# Altium integrated library Renesas Diode.IntLib: 1609 symbols (part 22 of 31)
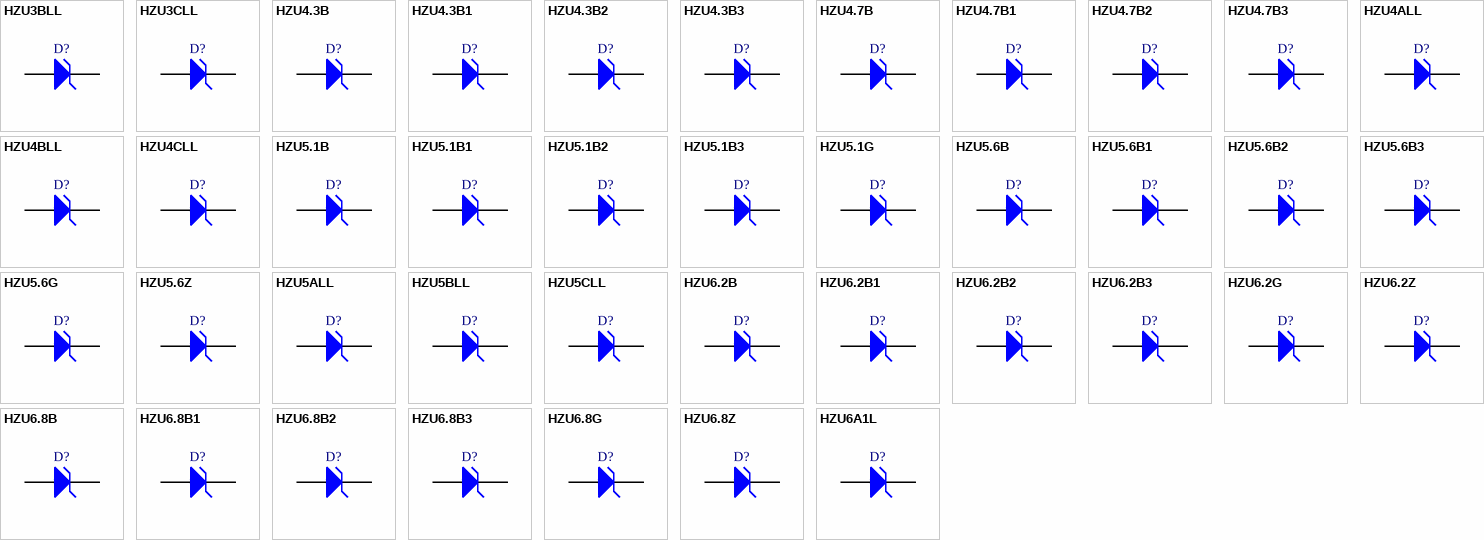
[diagram p66: symbols HZU3BLL to HZU6A1L]

## HZU6.8G
designator D?
Silicon Epitaxial Planar Zener Diode for Surge Absorption; Published: 12-Feb-2010; DatasheetVersion: Rev.3.00, Jun-2006; PackageVersion: Sep-2005; PackageReference: PTSP0002ZA-A; Publisher: Altium Limited; PackageDescription: 2-Pin SC-76 Package, 1.7 x 1.3 mm Body; Code_JEITA: SC-76A; ComponentLink1Description: Manufacturer Link; ComponentLink1URL: http://sg.renesas.com/fmwk.jsp?cnt=diode_landing.jsp&fp=/products/discrete/diodes/; ComponentLink2Description: Datasheet; ComponentLink2URL: http://documentation.renesas.com/eng/products/diode/rej03g1215_hzu_g.pdf; ComponentLink3Description: Packaging Specification; ComponentLink3URL: http://sg.renesas.com/media/products/common_info/package/pdf/diode/code/ptsp0002za_a.pdf
footprint PTSP0002ZA-A (SC-76; 2 Leads; Body 1.7x1.3mm, Renesas Recommended)
signal-integrity model HZU6.8G
pins: 1 K, 2 A

## HZU6.8Z
designator D?
Silicon Epitaxial Planar Zener Diode for Surge Absorption; Published: 12-Feb-2010; DatasheetVersion: Rev.2.00, Jun-2005; PackageVersion: Sep-2005; PackageReference: PTSP0002ZA-A; Publisher: Altium Limited; PackageDescription: 2-Pin SC-76 Package, 1.7 x 1.3 mm Body; Code_JEITA: SC-76A; ComponentLink1Description: Manufacturer Link; ComponentLink1URL: http://sg.renesas.com/fmwk.jsp?cnt=diode_landing.jsp&fp=/products/discrete/diodes/; ComponentLink2Description: Datasheet; ComponentLink2URL: http://documentation.renesas.com/eng/products/diode/rej03g1219_hzu68z.pdf; ComponentLink3Description: Packaging Specification; ComponentLink3URL: http://sg.renesas.com/media/products/common_info/package/pdf/diode/code/ptsp0002za_a.pdf
footprint PTSP0002ZA-A (SC-76; 2 Leads; Body 1.7x1.3mm, Renesas Recommended)
signal-integrity model HZU6.8Z
pins: 1 K, 2 A

## HZU6A1L
designator D?
Silicon Planar Zener Diode for Low Noise Application; Published: 12-Feb-2010; DatasheetVersion: Rev.4.00, Oct-2007; PackageVersion: Sep-2005; PackageReference: PTSP0002ZA-A; Publisher: Altium Limited; PackageDescription: 2-Pin SC-76 Package, 1.7 x 1.3 mm Body; Code_JEITA: SC-76A; ComponentLink1Description: Manufacturer Link; ComponentLink1URL: http://sg.renesas.com/fmwk.jsp?cnt=diode_landing.jsp&fp=/products/discrete/diodes/; ComponentLink2Description: Datasheet; ComponentLink2URL: http://documentation.renesas.com/eng/products/diode/rej03g0043_hzu_l.pdf; ComponentLink3Description: Packaging Specification; ComponentLink3URL: http://sg.renesas.com/media/products/common_info/package/pdf/diode/code/ptsp0002za_a.pdf
footprint PTSP0002ZA-A (SC-76; 2 Leads; Body 1.7x1.3mm, Renesas Recommended)
signal-integrity model HZU6A1L
pins: 1 K, 2 A

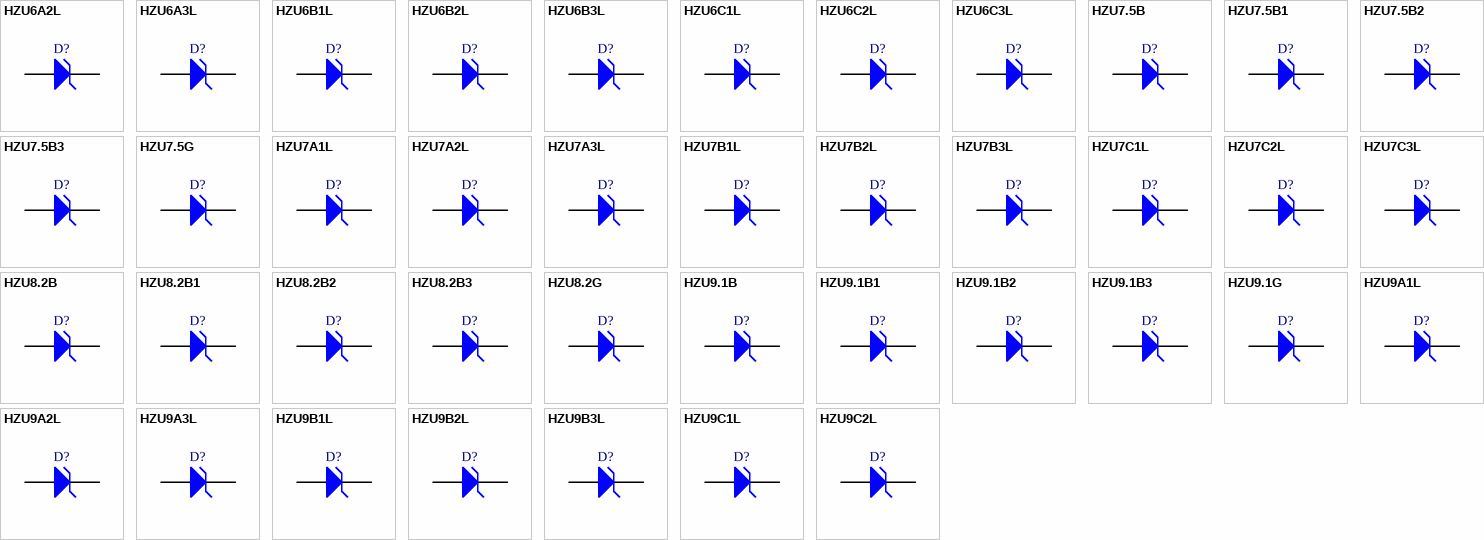
[diagram p30: symbols HZU6A2L to HZU9C2L]

## HZU6A2L
designator D?
Silicon Planar Zener Diode for Low Noise Application; Published: 12-Feb-2010; DatasheetVersion: Rev.4.00, Oct-2007; PackageVersion: Sep-2005; PackageReference: PTSP0002ZA-A; Publisher: Altium Limited; PackageDescription: 2-Pin SC-76 Package, 1.7 x 1.3 mm Body; Code_JEITA: SC-76A; ComponentLink1Description: Manufacturer Link; ComponentLink1URL: http://sg.renesas.com/fmwk.jsp?cnt=diode_landing.jsp&fp=/products/discrete/diodes/; ComponentLink2Description: Datasheet; ComponentLink2URL: http://documentation.renesas.com/eng/products/diode/rej03g0043_hzu_l.pdf; ComponentLink3Description: Packaging Specification; ComponentLink3URL: http://sg.renesas.com/media/products/common_info/package/pdf/diode/code/ptsp0002za_a.pdf
footprint PTSP0002ZA-A (SC-76; 2 Leads; Body 1.7x1.3mm, Renesas Recommended)
signal-integrity model HZU6A2L
pins: 1 K, 2 A

## HZU6A3L
designator D?
Silicon Planar Zener Diode for Low Noise Application; Published: 12-Feb-2010; DatasheetVersion: Rev.4.00, Oct-2007; PackageVersion: Sep-2005; PackageReference: PTSP0002ZA-A; Publisher: Altium Limited; PackageDescription: 2-Pin SC-76 Package, 1.7 x 1.3 mm Body; Code_JEITA: SC-76A; ComponentLink1Description: Manufacturer Link; ComponentLink1URL: http://sg.renesas.com/fmwk.jsp?cnt=diode_landing.jsp&fp=/products/discrete/diodes/; ComponentLink2Description: Datasheet; ComponentLink2URL: http://documentation.renesas.com/eng/products/diode/rej03g0043_hzu_l.pdf; ComponentLink3Description: Packaging Specification; ComponentLink3URL: http://sg.renesas.com/media/products/common_info/package/pdf/diode/code/ptsp0002za_a.pdf
footprint PTSP0002ZA-A (SC-76; 2 Leads; Body 1.7x1.3mm, Renesas Recommended)
signal-integrity model HZU6A3L
pins: 1 K, 2 A

## HZU6B1L
designator D?
Silicon Planar Zener Diode for Low Noise Application; Published: 12-Feb-2010; DatasheetVersion: Rev.4.00, Oct-2007; PackageVersion: Sep-2005; PackageReference: PTSP0002ZA-A; Publisher: Altium Limited; PackageDescription: 2-Pin SC-76 Package, 1.7 x 1.3 mm Body; Code_JEITA: SC-76A; ComponentLink1Description: Manufacturer Link; ComponentLink1URL: http://sg.renesas.com/fmwk.jsp?cnt=diode_landing.jsp&fp=/products/discrete/diodes/; ComponentLink2Description: Datasheet; ComponentLink2URL: http://documentation.renesas.com/eng/products/diode/rej03g0043_hzu_l.pdf; ComponentLink3Description: Packaging Specification; ComponentLink3URL: http://sg.renesas.com/media/products/common_info/package/pdf/diode/code/ptsp0002za_a.pdf
footprint PTSP0002ZA-A (SC-76; 2 Leads; Body 1.7x1.3mm, Renesas Recommended)
signal-integrity model HZU6B1L
pins: 1 K, 2 A

## HZU6B2L
designator D?
Silicon Planar Zener Diode for Low Noise Application; Published: 12-Feb-2010; DatasheetVersion: Rev.4.00, Oct-2007; PackageVersion: Sep-2005; PackageReference: PTSP0002ZA-A; Publisher: Altium Limited; PackageDescription: 2-Pin SC-76 Package, 1.7 x 1.3 mm Body; Code_JEITA: SC-76A; ComponentLink1Description: Manufacturer Link; ComponentLink1URL: http://sg.renesas.com/fmwk.jsp?cnt=diode_landing.jsp&fp=/products/discrete/diodes/; ComponentLink2Description: Datasheet; ComponentLink2URL: http://documentation.renesas.com/eng/products/diode/rej03g0043_hzu_l.pdf; ComponentLink3Description: Packaging Specification; ComponentLink3URL: http://sg.renesas.com/media/products/common_info/package/pdf/diode/code/ptsp0002za_a.pdf
footprint PTSP0002ZA-A (SC-76; 2 Leads; Body 1.7x1.3mm, Renesas Recommended)
signal-integrity model HZU6B2L
pins: 1 K, 2 A

## HZU6B3L
designator D?
Silicon Planar Zener Diode for Low Noise Application; Published: 12-Feb-2010; DatasheetVersion: Rev.4.00, Oct-2007; PackageVersion: Sep-2005; PackageReference: PTSP0002ZA-A; Publisher: Altium Limited; PackageDescription: 2-Pin SC-76 Package, 1.7 x 1.3 mm Body; Code_JEITA: SC-76A; ComponentLink1Description: Manufacturer Link; ComponentLink1URL: http://sg.renesas.com/fmwk.jsp?cnt=diode_landing.jsp&fp=/products/discrete/diodes/; ComponentLink2Description: Datasheet; ComponentLink2URL: http://documentation.renesas.com/eng/products/diode/rej03g0043_hzu_l.pdf; ComponentLink3Description: Packaging Specification; ComponentLink3URL: http://sg.renesas.com/media/products/common_info/package/pdf/diode/code/ptsp0002za_a.pdf
footprint PTSP0002ZA-A (SC-76; 2 Leads; Body 1.7x1.3mm, Renesas Recommended)
signal-integrity model HZU6B3L
pins: 1 K, 2 A

## HZU6C1L
designator D?
Silicon Planar Zener Diode for Low Noise Application; Published: 12-Feb-2010; DatasheetVersion: Rev.4.00, Oct-2007; PackageVersion: Sep-2005; PackageReference: PTSP0002ZA-A; Publisher: Altium Limited; PackageDescription: 2-Pin SC-76 Package, 1.7 x 1.3 mm Body; Code_JEITA: SC-76A; ComponentLink1Description: Manufacturer Link; ComponentLink1URL: http://sg.renesas.com/fmwk.jsp?cnt=diode_landing.jsp&fp=/products/discrete/diodes/; ComponentLink2Description: Datasheet; ComponentLink2URL: http://documentation.renesas.com/eng/products/diode/rej03g0043_hzu_l.pdf; ComponentLink3Description: Packaging Specification; ComponentLink3URL: http://sg.renesas.com/media/products/common_info/package/pdf/diode/code/ptsp0002za_a.pdf
footprint PTSP0002ZA-A (SC-76; 2 Leads; Body 1.7x1.3mm, Renesas Recommended)
signal-integrity model HZU6C1L
pins: 1 K, 2 A

## HZU6C2L
designator D?
Silicon Planar Zener Diode for Low Noise Application; Published: 12-Feb-2010; DatasheetVersion: Rev.4.00, Oct-2007; PackageVersion: Sep-2005; PackageReference: PTSP0002ZA-A; Publisher: Altium Limited; PackageDescription: 2-Pin SC-76 Package, 1.7 x 1.3 mm Body; Code_JEITA: SC-76A; ComponentLink1Description: Manufacturer Link; ComponentLink1URL: http://sg.renesas.com/fmwk.jsp?cnt=diode_landing.jsp&fp=/products/discrete/diodes/; ComponentLink2Description: Datasheet; ComponentLink2URL: http://documentation.renesas.com/eng/products/diode/rej03g0043_hzu_l.pdf; ComponentLink3Description: Packaging Specification; ComponentLink3URL: http://sg.renesas.com/media/products/common_info/package/pdf/diode/code/ptsp0002za_a.pdf
footprint PTSP0002ZA-A (SC-76; 2 Leads; Body 1.7x1.3mm, Renesas Recommended)
signal-integrity model HZU6C2L
pins: 1 K, 2 A

## HZU6C3L
designator D?
Silicon Planar Zener Diode for Low Noise Application; Published: 12-Feb-2010; DatasheetVersion: Rev.4.00, Oct-2007; PackageVersion: Sep-2005; PackageReference: PTSP0002ZA-A; Publisher: Altium Limited; PackageDescription: 2-Pin SC-76 Package, 1.7 x 1.3 mm Body; Code_JEITA: SC-76A; ComponentLink1Description: Manufacturer Link; ComponentLink1URL: http://sg.renesas.com/fmwk.jsp?cnt=diode_landing.jsp&fp=/products/discrete/diodes/; ComponentLink2Description: Datasheet; ComponentLink2URL: http://documentation.renesas.com/eng/products/diode/rej03g0043_hzu_l.pdf; ComponentLink3Description: Packaging Specification; ComponentLink3URL: http://sg.renesas.com/media/products/common_info/package/pdf/diode/code/ptsp0002za_a.pdf
footprint PTSP0002ZA-A (SC-76; 2 Leads; Body 1.7x1.3mm, Renesas Recommended)
signal-integrity model HZU6C3L
pins: 1 K, 2 A

## HZU7.5B
designator D?
Silicon Epitaxial Planar Zener Diodes for Stabilizer; Published: 12-Feb-2010; DatasheetVersion: Rev.9.00, Jul-2006; PackageVersion: Sep-2005; PackageReference: PTSP0002ZA-A; Publisher: Altium Limited; PackageDescription: 2-Pin SC-76 Package, 1.7 x 1.3 mm Body; Code_JEITA: SC-76A; ComponentLink1Description: Manufacturer Link; ComponentLink1URL: http://sg.renesas.com/fmwk.jsp?cnt=diode_landing.jsp&fp=/products/discrete/diodes/; ComponentLink2Description: Datasheet; ComponentLink2URL: http://documentation.renesas.com/eng/products/diode/rej03g0625_hzu.pdf; ComponentLink3Description: Packaging Specification; ComponentLink3URL: http://sg.renesas.com/media/products/common_info/package/pdf/diode/code/ptsp0002za_a.pdf
footprint PTSP0002ZA-A (SC-76; 2 Leads; Body 1.7x1.3mm, Renesas Recommended)
signal-integrity model HZU7.5B
pins: 1 K, 2 A

## HZU7.5B1
designator D?
Silicon Epitaxial Planar Zener Diodes for Stabilizer; Published: 12-Feb-2010; DatasheetVersion: Rev.9.00, Jul-2006; PackageVersion: Sep-2005; PackageReference: PTSP0002ZA-A; Publisher: Altium Limited; PackageDescription: 2-Pin SC-76 Package, 1.7 x 1.3 mm Body; Code_JEITA: SC-76A; ComponentLink1Description: Manufacturer Link; ComponentLink1URL: http://sg.renesas.com/fmwk.jsp?cnt=diode_landing.jsp&fp=/products/discrete/diodes/; ComponentLink2Description: Datasheet; ComponentLink2URL: http://documentation.renesas.com/eng/products/diode/rej03g0625_hzu.pdf; ComponentLink3Description: Packaging Specification; ComponentLink3URL: http://sg.renesas.com/media/products/common_info/package/pdf/diode/code/ptsp0002za_a.pdf
footprint PTSP0002ZA-A (SC-76; 2 Leads; Body 1.7x1.3mm, Renesas Recommended)
signal-integrity model HZU7.5B1
pins: 1 K, 2 A

## HZU7.5B2
designator D?
Silicon Epitaxial Planar Zener Diodes for Stabilizer; Published: 12-Feb-2010; DatasheetVersion: Rev.9.00, Jul-2006; PackageVersion: Sep-2005; PackageReference: PTSP0002ZA-A; Publisher: Altium Limited; PackageDescription: 2-Pin SC-76 Package, 1.7 x 1.3 mm Body; Code_JEITA: SC-76A; ComponentLink1Description: Manufacturer Link; ComponentLink1URL: http://sg.renesas.com/fmwk.jsp?cnt=diode_landing.jsp&fp=/products/discrete/diodes/; ComponentLink2Description: Datasheet; ComponentLink2URL: http://documentation.renesas.com/eng/products/diode/rej03g0625_hzu.pdf; ComponentLink3Description: Packaging Specification; ComponentLink3URL: http://sg.renesas.com/media/products/common_info/package/pdf/diode/code/ptsp0002za_a.pdf
footprint PTSP0002ZA-A (SC-76; 2 Leads; Body 1.7x1.3mm, Renesas Recommended)
signal-integrity model HZU7.5B2
pins: 1 K, 2 A

## HZU7.5B3
designator D?
Silicon Epitaxial Planar Zener Diodes for Stabilizer; Published: 12-Feb-2010; DatasheetVersion: Rev.9.00, Jul-2006; PackageVersion: Sep-2005; PackageReference: PTSP0002ZA-A; Publisher: Altium Limited; PackageDescription: 2-Pin SC-76 Package, 1.7 x 1.3 mm Body; Code_JEITA: SC-76A; ComponentLink1Description: Manufacturer Link; ComponentLink1URL: http://sg.renesas.com/fmwk.jsp?cnt=diode_landing.jsp&fp=/products/discrete/diodes/; ComponentLink2Description: Datasheet; ComponentLink2URL: http://documentation.renesas.com/eng/products/diode/rej03g0625_hzu.pdf; ComponentLink3Description: Packaging Specification; ComponentLink3URL: http://sg.renesas.com/media/products/common_info/package/pdf/diode/code/ptsp0002za_a.pdf
footprint PTSP0002ZA-A (SC-76; 2 Leads; Body 1.7x1.3mm, Renesas Recommended)
signal-integrity model HZU7.5B3
pins: 1 K, 2 A

## HZU7.5G
designator D?
Silicon Epitaxial Planar Zener Diode for Surge Absorption; Published: 12-Feb-2010; DatasheetVersion: Rev.3.00, Jun-2006; PackageVersion: Sep-2005; PackageReference: PTSP0002ZA-A; Publisher: Altium Limited; PackageDescription: 2-Pin SC-76 Package, 1.7 x 1.3 mm Body; Code_JEITA: SC-76A; ComponentLink1Description: Manufacturer Link; ComponentLink1URL: http://sg.renesas.com/fmwk.jsp?cnt=diode_landing.jsp&fp=/products/discrete/diodes/; ComponentLink2Description: Datasheet; ComponentLink2URL: http://documentation.renesas.com/eng/products/diode/rej03g1215_hzu_g.pdf; ComponentLink3Description: Packaging Specification; ComponentLink3URL: http://sg.renesas.com/media/products/common_info/package/pdf/diode/code/ptsp0002za_a.pdf
footprint PTSP0002ZA-A (SC-76; 2 Leads; Body 1.7x1.3mm, Renesas Recommended)
signal-integrity model HZU7.5G
pins: 1 K, 2 A

## HZU7A1L
designator D?
Silicon Planar Zener Diode for Low Noise Application; Published: 12-Feb-2010; DatasheetVersion: Rev.4.00, Oct-2007; PackageVersion: Sep-2005; PackageReference: PTSP0002ZA-A; Publisher: Altium Limited; PackageDescription: 2-Pin SC-76 Package, 1.7 x 1.3 mm Body; Code_JEITA: SC-76A; ComponentLink1Description: Manufacturer Link; ComponentLink1URL: http://sg.renesas.com/fmwk.jsp?cnt=diode_landing.jsp&fp=/products/discrete/diodes/; ComponentLink2Description: Datasheet; ComponentLink2URL: http://documentation.renesas.com/eng/products/diode/rej03g0043_hzu_l.pdf; ComponentLink3Description: Packaging Specification; ComponentLink3URL: http://sg.renesas.com/media/products/common_info/package/pdf/diode/code/ptsp0002za_a.pdf
footprint PTSP0002ZA-A (SC-76; 2 Leads; Body 1.7x1.3mm, Renesas Recommended)
signal-integrity model HZU7A1L
pins: 1 K, 2 A

## HZU7A2L
designator D?
Silicon Planar Zener Diode for Low Noise Application; Published: 12-Feb-2010; DatasheetVersion: Rev.4.00, Oct-2007; PackageVersion: Sep-2005; PackageReference: PTSP0002ZA-A; Publisher: Altium Limited; PackageDescription: 2-Pin SC-76 Package, 1.7 x 1.3 mm Body; Code_JEITA: SC-76A; ComponentLink1Description: Manufacturer Link; ComponentLink1URL: http://sg.renesas.com/fmwk.jsp?cnt=diode_landing.jsp&fp=/products/discrete/diodes/; ComponentLink2Description: Datasheet; ComponentLink2URL: http://documentation.renesas.com/eng/products/diode/rej03g0043_hzu_l.pdf; ComponentLink3Description: Packaging Specification; ComponentLink3URL: http://sg.renesas.com/media/products/common_info/package/pdf/diode/code/ptsp0002za_a.pdf
footprint PTSP0002ZA-A (SC-76; 2 Leads; Body 1.7x1.3mm, Renesas Recommended)
signal-integrity model HZU7A2L
pins: 1 K, 2 A

## HZU7A3L
designator D?
Silicon Planar Zener Diode for Low Noise Application; Published: 12-Feb-2010; DatasheetVersion: Rev.4.00, Oct-2007; PackageVersion: Sep-2005; PackageReference: PTSP0002ZA-A; Publisher: Altium Limited; PackageDescription: 2-Pin SC-76 Package, 1.7 x 1.3 mm Body; Code_JEITA: SC-76A; ComponentLink1Description: Manufacturer Link; ComponentLink1URL: http://sg.renesas.com/fmwk.jsp?cnt=diode_landing.jsp&fp=/products/discrete/diodes/; ComponentLink2Description: Datasheet; ComponentLink2URL: http://documentation.renesas.com/eng/products/diode/rej03g0043_hzu_l.pdf; ComponentLink3Description: Packaging Specification; ComponentLink3URL: http://sg.renesas.com/media/products/common_info/package/pdf/diode/code/ptsp0002za_a.pdf
footprint PTSP0002ZA-A (SC-76; 2 Leads; Body 1.7x1.3mm, Renesas Recommended)
signal-integrity model HZU7A3L
pins: 1 K, 2 A

## HZU7B1L
designator D?
Silicon Planar Zener Diode for Low Noise Application; Published: 12-Feb-2010; DatasheetVersion: Rev.4.00, Oct-2007; PackageVersion: Sep-2005; PackageReference: PTSP0002ZA-A; Publisher: Altium Limited; PackageDescription: 2-Pin SC-76 Package, 1.7 x 1.3 mm Body; Code_JEITA: SC-76A; ComponentLink1Description: Manufacturer Link; ComponentLink1URL: http://sg.renesas.com/fmwk.jsp?cnt=diode_landing.jsp&fp=/products/discrete/diodes/; ComponentLink2Description: Datasheet; ComponentLink2URL: http://documentation.renesas.com/eng/products/diode/rej03g0043_hzu_l.pdf; ComponentLink3Description: Packaging Specification; ComponentLink3URL: http://sg.renesas.com/media/products/common_info/package/pdf/diode/code/ptsp0002za_a.pdf
footprint PTSP0002ZA-A (SC-76; 2 Leads; Body 1.7x1.3mm, Renesas Recommended)
signal-integrity model HZU7B1L
pins: 1 K, 2 A

## HZU7B2L
designator D?
Silicon Planar Zener Diode for Low Noise Application; Published: 12-Feb-2010; DatasheetVersion: Rev.4.00, Oct-2007; PackageVersion: Sep-2005; PackageReference: PTSP0002ZA-A; Publisher: Altium Limited; PackageDescription: 2-Pin SC-76 Package, 1.7 x 1.3 mm Body; Code_JEITA: SC-76A; ComponentLink1Description: Manufacturer Link; ComponentLink1URL: http://sg.renesas.com/fmwk.jsp?cnt=diode_landing.jsp&fp=/products/discrete/diodes/; ComponentLink2Description: Datasheet; ComponentLink2URL: http://documentation.renesas.com/eng/products/diode/rej03g0043_hzu_l.pdf; ComponentLink3Description: Packaging Specification; ComponentLink3URL: http://sg.renesas.com/media/products/common_info/package/pdf/diode/code/ptsp0002za_a.pdf
footprint PTSP0002ZA-A (SC-76; 2 Leads; Body 1.7x1.3mm, Renesas Recommended)
signal-integrity model HZU7B2L
pins: 1 K, 2 A

## HZU7B3L
designator D?
Silicon Planar Zener Diode for Low Noise Application; Published: 12-Feb-2010; DatasheetVersion: Rev.4.00, Oct-2007; PackageVersion: Sep-2005; PackageReference: PTSP0002ZA-A; Publisher: Altium Limited; PackageDescription: 2-Pin SC-76 Package, 1.7 x 1.3 mm Body; Code_JEITA: SC-76A; ComponentLink1Description: Manufacturer Link; ComponentLink1URL: http://sg.renesas.com/fmwk.jsp?cnt=diode_landing.jsp&fp=/products/discrete/diodes/; ComponentLink2Description: Datasheet; ComponentLink2URL: http://documentation.renesas.com/eng/products/diode/rej03g0043_hzu_l.pdf; ComponentLink3Description: Packaging Specification; ComponentLink3URL: http://sg.renesas.com/media/products/common_info/package/pdf/diode/code/ptsp0002za_a.pdf
footprint PTSP0002ZA-A (SC-76; 2 Leads; Body 1.7x1.3mm, Renesas Recommended)
signal-integrity model HZU7B3L
pins: 1 K, 2 A

## HZU7C1L
designator D?
Silicon Planar Zener Diode for Low Noise Application; Published: 12-Feb-2010; DatasheetVersion: Rev.4.00, Oct-2007; PackageVersion: Sep-2005; PackageReference: PTSP0002ZA-A; Publisher: Altium Limited; PackageDescription: 2-Pin SC-76 Package, 1.7 x 1.3 mm Body; Code_JEITA: SC-76A; ComponentLink1Description: Manufacturer Link; ComponentLink1URL: http://sg.renesas.com/fmwk.jsp?cnt=diode_landing.jsp&fp=/products/discrete/diodes/; ComponentLink2Description: Datasheet; ComponentLink2URL: http://documentation.renesas.com/eng/products/diode/rej03g0043_hzu_l.pdf; ComponentLink3Description: Packaging Specification; ComponentLink3URL: http://sg.renesas.com/media/products/common_info/package/pdf/diode/code/ptsp0002za_a.pdf
footprint PTSP0002ZA-A (SC-76; 2 Leads; Body 1.7x1.3mm, Renesas Recommended)
signal-integrity model HZU7C1L
pins: 1 K, 2 A

## HZU7C2L
designator D?
Silicon Planar Zener Diode for Low Noise Application; Published: 12-Feb-2010; DatasheetVersion: Rev.4.00, Oct-2007; PackageVersion: Sep-2005; PackageReference: PTSP0002ZA-A; Publisher: Altium Limited; PackageDescription: 2-Pin SC-76 Package, 1.7 x 1.3 mm Body; Code_JEITA: SC-76A; ComponentLink1Description: Manufacturer Link; ComponentLink1URL: http://sg.renesas.com/fmwk.jsp?cnt=diode_landing.jsp&fp=/products/discrete/diodes/; ComponentLink2Description: Datasheet; ComponentLink2URL: http://documentation.renesas.com/eng/products/diode/rej03g0043_hzu_l.pdf; ComponentLink3Description: Packaging Specification; ComponentLink3URL: http://sg.renesas.com/media/products/common_info/package/pdf/diode/code/ptsp0002za_a.pdf
footprint PTSP0002ZA-A (SC-76; 2 Leads; Body 1.7x1.3mm, Renesas Recommended)
signal-integrity model HZU7C2L
pins: 1 K, 2 A

## HZU7C3L
designator D?
Silicon Planar Zener Diode for Low Noise Application; Published: 12-Feb-2010; DatasheetVersion: Rev.4.00, Oct-2007; PackageVersion: Sep-2005; PackageReference: PTSP0002ZA-A; Publisher: Altium Limited; PackageDescription: 2-Pin SC-76 Package, 1.7 x 1.3 mm Body; Code_JEITA: SC-76A; ComponentLink1Description: Manufacturer Link; ComponentLink1URL: http://sg.renesas.com/fmwk.jsp?cnt=diode_landing.jsp&fp=/products/discrete/diodes/; ComponentLink2Description: Datasheet; ComponentLink2URL: http://documentation.renesas.com/eng/products/diode/rej03g0043_hzu_l.pdf; ComponentLink3Description: Packaging Specification; ComponentLink3URL: http://sg.renesas.com/media/products/common_info/package/pdf/diode/code/ptsp0002za_a.pdf
footprint PTSP0002ZA-A (SC-76; 2 Leads; Body 1.7x1.3mm, Renesas Recommended)
signal-integrity model HZU7C3L
pins: 1 K, 2 A

## HZU8.2B
designator D?
Silicon Epitaxial Planar Zener Diodes for Stabilizer; Published: 12-Feb-2010; DatasheetVersion: Rev.9.00, Jul-2006; PackageVersion: Sep-2005; PackageReference: PTSP0002ZA-A; Publisher: Altium Limited; PackageDescription: 2-Pin SC-76 Package, 1.7 x 1.3 mm Body; Code_JEITA: SC-76A; ComponentLink1Description: Manufacturer Link; ComponentLink1URL: http://sg.renesas.com/fmwk.jsp?cnt=diode_landing.jsp&fp=/products/discrete/diodes/; ComponentLink2Description: Datasheet; ComponentLink2URL: http://documentation.renesas.com/eng/products/diode/rej03g0625_hzu.pdf; ComponentLink3Description: Packaging Specification; ComponentLink3URL: http://sg.renesas.com/media/products/common_info/package/pdf/diode/code/ptsp0002za_a.pdf
footprint PTSP0002ZA-A (SC-76; 2 Leads; Body 1.7x1.3mm, Renesas Recommended)
signal-integrity model HZU8.2B
pins: 1 K, 2 A

## HZU8.2B1
designator D?
Silicon Epitaxial Planar Zener Diodes for Stabilizer; Published: 12-Feb-2010; DatasheetVersion: Rev.9.00, Jul-2006; PackageVersion: Sep-2005; PackageReference: PTSP0002ZA-A; Publisher: Altium Limited; PackageDescription: 2-Pin SC-76 Package, 1.7 x 1.3 mm Body; Code_JEITA: SC-76A; ComponentLink1Description: Manufacturer Link; ComponentLink1URL: http://sg.renesas.com/fmwk.jsp?cnt=diode_landing.jsp&fp=/products/discrete/diodes/; ComponentLink2Description: Datasheet; ComponentLink2URL: http://documentation.renesas.com/eng/products/diode/rej03g0625_hzu.pdf; ComponentLink3Description: Packaging Specification; ComponentLink3URL: http://sg.renesas.com/media/products/common_info/package/pdf/diode/code/ptsp0002za_a.pdf
footprint PTSP0002ZA-A (SC-76; 2 Leads; Body 1.7x1.3mm, Renesas Recommended)
signal-integrity model HZU8.2B1
pins: 1 K, 2 A

## HZU8.2B2
designator D?
Silicon Epitaxial Planar Zener Diodes for Stabilizer; Published: 12-Feb-2010; DatasheetVersion: Rev.9.00, Jul-2006; PackageVersion: Sep-2005; PackageReference: PTSP0002ZA-A; Publisher: Altium Limited; PackageDescription: 2-Pin SC-76 Package, 1.7 x 1.3 mm Body; Code_JEITA: SC-76A; ComponentLink1Description: Manufacturer Link; ComponentLink1URL: http://sg.renesas.com/fmwk.jsp?cnt=diode_landing.jsp&fp=/products/discrete/diodes/; ComponentLink2Description: Datasheet; ComponentLink2URL: http://documentation.renesas.com/eng/products/diode/rej03g0625_hzu.pdf; ComponentLink3Description: Packaging Specification; ComponentLink3URL: http://sg.renesas.com/media/products/common_info/package/pdf/diode/code/ptsp0002za_a.pdf
footprint PTSP0002ZA-A (SC-76; 2 Leads; Body 1.7x1.3mm, Renesas Recommended)
signal-integrity model HZU8.2B2
pins: 1 K, 2 A

## HZU8.2B3
designator D?
Silicon Epitaxial Planar Zener Diodes for Stabilizer; Published: 12-Feb-2010; DatasheetVersion: Rev.9.00, Jul-2006; PackageVersion: Sep-2005; PackageReference: PTSP0002ZA-A; Publisher: Altium Limited; PackageDescription: 2-Pin SC-76 Package, 1.7 x 1.3 mm Body; Code_JEITA: SC-76A; ComponentLink1Description: Manufacturer Link; ComponentLink1URL: http://sg.renesas.com/fmwk.jsp?cnt=diode_landing.jsp&fp=/products/discrete/diodes/; ComponentLink2Description: Datasheet; ComponentLink2URL: http://documentation.renesas.com/eng/products/diode/rej03g0625_hzu.pdf; ComponentLink3Description: Packaging Specification; ComponentLink3URL: http://sg.renesas.com/media/products/common_info/package/pdf/diode/code/ptsp0002za_a.pdf
footprint PTSP0002ZA-A (SC-76; 2 Leads; Body 1.7x1.3mm, Renesas Recommended)
signal-integrity model HZU8.2B3
pins: 1 K, 2 A

## HZU8.2G
designator D?
Silicon Epitaxial Planar Zener Diode for Surge Absorption; Published: 12-Feb-2010; DatasheetVersion: Rev.3.00, Jun-2006; PackageVersion: Sep-2005; PackageReference: PTSP0002ZA-A; Publisher: Altium Limited; PackageDescription: 2-Pin SC-76 Package, 1.7 x 1.3 mm Body; Code_JEITA: SC-76A; ComponentLink1Description: Manufacturer Link; ComponentLink1URL: http://sg.renesas.com/fmwk.jsp?cnt=diode_landing.jsp&fp=/products/discrete/diodes/; ComponentLink2Description: Datasheet; ComponentLink2URL: http://documentation.renesas.com/eng/products/diode/rej03g1215_hzu_g.pdf; ComponentLink3Description: Packaging Specification; ComponentLink3URL: http://sg.renesas.com/media/products/common_info/package/pdf/diode/code/ptsp0002za_a.pdf
footprint PTSP0002ZA-A (SC-76; 2 Leads; Body 1.7x1.3mm, Renesas Recommended)
signal-integrity model HZU8.2G
pins: 1 K, 2 A

## HZU9.1B
designator D?
Silicon Epitaxial Planar Zener Diodes for Stabilizer; Published: 12-Feb-2010; DatasheetVersion: Rev.9.00, Jul-2006; PackageVersion: Sep-2005; PackageReference: PTSP0002ZA-A; Publisher: Altium Limited; PackageDescription: 2-Pin SC-76 Package, 1.7 x 1.3 mm Body; Code_JEITA: SC-76A; ComponentLink1Description: Manufacturer Link; ComponentLink1URL: http://sg.renesas.com/fmwk.jsp?cnt=diode_landing.jsp&fp=/products/discrete/diodes/; ComponentLink2Description: Datasheet; ComponentLink2URL: http://documentation.renesas.com/eng/products/diode/rej03g0625_hzu.pdf; ComponentLink3Description: Packaging Specification; ComponentLink3URL: http://sg.renesas.com/media/products/common_info/package/pdf/diode/code/ptsp0002za_a.pdf
footprint PTSP0002ZA-A (SC-76; 2 Leads; Body 1.7x1.3mm, Renesas Recommended)
signal-integrity model HZU9.1B
pins: 1 K, 2 A

## HZU9.1B1
designator D?
Silicon Epitaxial Planar Zener Diodes for Stabilizer; Published: 12-Feb-2010; DatasheetVersion: Rev.9.00, Jul-2006; PackageVersion: Sep-2005; PackageReference: PTSP0002ZA-A; Publisher: Altium Limited; PackageDescription: 2-Pin SC-76 Package, 1.7 x 1.3 mm Body; Code_JEITA: SC-76A; ComponentLink1Description: Manufacturer Link; ComponentLink1URL: http://sg.renesas.com/fmwk.jsp?cnt=diode_landing.jsp&fp=/products/discrete/diodes/; ComponentLink2Description: Datasheet; ComponentLink2URL: http://documentation.renesas.com/eng/products/diode/rej03g0625_hzu.pdf; ComponentLink3Description: Packaging Specification; ComponentLink3URL: http://sg.renesas.com/media/products/common_info/package/pdf/diode/code/ptsp0002za_a.pdf
footprint PTSP0002ZA-A (SC-76; 2 Leads; Body 1.7x1.3mm, Renesas Recommended)
signal-integrity model HZU9.1B1
pins: 1 K, 2 A

## HZU9.1B2
designator D?
Silicon Epitaxial Planar Zener Diodes for Stabilizer; Published: 12-Feb-2010; DatasheetVersion: Rev.9.00, Jul-2006; PackageVersion: Sep-2005; PackageReference: PTSP0002ZA-A; Publisher: Altium Limited; PackageDescription: 2-Pin SC-76 Package, 1.7 x 1.3 mm Body; Code_JEITA: SC-76A; ComponentLink1Description: Manufacturer Link; ComponentLink1URL: http://sg.renesas.com/fmwk.jsp?cnt=diode_landing.jsp&fp=/products/discrete/diodes/; ComponentLink2Description: Datasheet; ComponentLink2URL: http://documentation.renesas.com/eng/products/diode/rej03g0625_hzu.pdf; ComponentLink3Description: Packaging Specification; ComponentLink3URL: http://sg.renesas.com/media/products/common_info/package/pdf/diode/code/ptsp0002za_a.pdf
footprint PTSP0002ZA-A (SC-76; 2 Leads; Body 1.7x1.3mm, Renesas Recommended)
signal-integrity model HZU9.1B2
pins: 1 K, 2 A

## HZU9.1B3
designator D?
Silicon Epitaxial Planar Zener Diodes for Stabilizer; Published: 12-Feb-2010; DatasheetVersion: Rev.9.00, Jul-2006; PackageVersion: Sep-2005; PackageReference: PTSP0002ZA-A; Publisher: Altium Limited; PackageDescription: 2-Pin SC-76 Package, 1.7 x 1.3 mm Body; Code_JEITA: SC-76A; ComponentLink1Description: Manufacturer Link; ComponentLink1URL: http://sg.renesas.com/fmwk.jsp?cnt=diode_landing.jsp&fp=/products/discrete/diodes/; ComponentLink2Description: Datasheet; ComponentLink2URL: http://documentation.renesas.com/eng/products/diode/rej03g0625_hzu.pdf; ComponentLink3Description: Packaging Specification; ComponentLink3URL: http://sg.renesas.com/media/products/common_info/package/pdf/diode/code/ptsp0002za_a.pdf
footprint PTSP0002ZA-A (SC-76; 2 Leads; Body 1.7x1.3mm, Renesas Recommended)
signal-integrity model HZU9.1B3
pins: 1 K, 2 A

## HZU9.1G
designator D?
Silicon Epitaxial Planar Zener Diode for Surge Absorption; Published: 12-Feb-2010; DatasheetVersion: Rev.3.00, Jun-2006; PackageVersion: Sep-2005; PackageReference: PTSP0002ZA-A; Publisher: Altium Limited; PackageDescription: 2-Pin SC-76 Package, 1.7 x 1.3 mm Body; Code_JEITA: SC-76A; ComponentLink1Description: Manufacturer Link; ComponentLink1URL: http://sg.renesas.com/fmwk.jsp?cnt=diode_landing.jsp&fp=/products/discrete/diodes/; ComponentLink2Description: Datasheet; ComponentLink2URL: http://documentation.renesas.com/eng/products/diode/rej03g1215_hzu_g.pdf; ComponentLink3Description: Packaging Specification; ComponentLink3URL: http://sg.renesas.com/media/products/common_info/package/pdf/diode/code/ptsp0002za_a.pdf
footprint PTSP0002ZA-A (SC-76; 2 Leads; Body 1.7x1.3mm, Renesas Recommended)
signal-integrity model HZU9.1G
pins: 1 K, 2 A

## HZU9A1L
designator D?
Silicon Planar Zener Diode for Low Noise Application; Published: 12-Feb-2010; DatasheetVersion: Rev.4.00, Oct-2007; PackageVersion: Sep-2005; PackageReference: PTSP0002ZA-A; Publisher: Altium Limited; PackageDescription: 2-Pin SC-76 Package, 1.7 x 1.3 mm Body; Code_JEITA: SC-76A; ComponentLink1Description: Manufacturer Link; ComponentLink1URL: http://sg.renesas.com/fmwk.jsp?cnt=diode_landing.jsp&fp=/products/discrete/diodes/; ComponentLink2Description: Datasheet; ComponentLink2URL: http://documentation.renesas.com/eng/products/diode/rej03g0043_hzu_l.pdf; ComponentLink3Description: Packaging Specification; ComponentLink3URL: http://sg.renesas.com/media/products/common_info/package/pdf/diode/code/ptsp0002za_a.pdf
footprint PTSP0002ZA-A (SC-76; 2 Leads; Body 1.7x1.3mm, Renesas Recommended)
signal-integrity model HZU9A1L
pins: 1 K, 2 A

## HZU9A2L
designator D?
Silicon Planar Zener Diode for Low Noise Application; Published: 12-Feb-2010; DatasheetVersion: Rev.4.00, Oct-2007; PackageVersion: Sep-2005; PackageReference: PTSP0002ZA-A; Publisher: Altium Limited; PackageDescription: 2-Pin SC-76 Package, 1.7 x 1.3 mm Body; Code_JEITA: SC-76A; ComponentLink1Description: Manufacturer Link; ComponentLink1URL: http://sg.renesas.com/fmwk.jsp?cnt=diode_landing.jsp&fp=/products/discrete/diodes/; ComponentLink2Description: Datasheet; ComponentLink2URL: http://documentation.renesas.com/eng/products/diode/rej03g0043_hzu_l.pdf; ComponentLink3Description: Packaging Specification; ComponentLink3URL: http://sg.renesas.com/media/products/common_info/package/pdf/diode/code/ptsp0002za_a.pdf
footprint PTSP0002ZA-A (SC-76; 2 Leads; Body 1.7x1.3mm, Renesas Recommended)
signal-integrity model HZU9A2L
pins: 1 K, 2 A

## HZU9A3L
designator D?
Silicon Planar Zener Diode for Low Noise Application; Published: 12-Feb-2010; DatasheetVersion: Rev.4.00, Oct-2007; PackageVersion: Sep-2005; PackageReference: PTSP0002ZA-A; Publisher: Altium Limited; PackageDescription: 2-Pin SC-76 Package, 1.7 x 1.3 mm Body; Code_JEITA: SC-76A; ComponentLink1Description: Manufacturer Link; ComponentLink1URL: http://sg.renesas.com/fmwk.jsp?cnt=diode_landing.jsp&fp=/products/discrete/diodes/; ComponentLink2Description: Datasheet; ComponentLink2URL: http://documentation.renesas.com/eng/products/diode/rej03g0043_hzu_l.pdf; ComponentLink3Description: Packaging Specification; ComponentLink3URL: http://sg.renesas.com/media/products/common_info/package/pdf/diode/code/ptsp0002za_a.pdf
footprint PTSP0002ZA-A (SC-76; 2 Leads; Body 1.7x1.3mm, Renesas Recommended)
signal-integrity model HZU9A3L
pins: 1 K, 2 A

## HZU9B1L
designator D?
Silicon Planar Zener Diode for Low Noise Application; Published: 12-Feb-2010; DatasheetVersion: Rev.4.00, Oct-2007; PackageVersion: Sep-2005; PackageReference: PTSP0002ZA-A; Publisher: Altium Limited; PackageDescription: 2-Pin SC-76 Package, 1.7 x 1.3 mm Body; Code_JEITA: SC-76A; ComponentLink1Description: Manufacturer Link; ComponentLink1URL: http://sg.renesas.com/fmwk.jsp?cnt=diode_landing.jsp&fp=/products/discrete/diodes/; ComponentLink2Description: Datasheet; ComponentLink2URL: http://documentation.renesas.com/eng/products/diode/rej03g0043_hzu_l.pdf; ComponentLink3Description: Packaging Specification; ComponentLink3URL: http://sg.renesas.com/media/products/common_info/package/pdf/diode/code/ptsp0002za_a.pdf
footprint PTSP0002ZA-A (SC-76; 2 Leads; Body 1.7x1.3mm, Renesas Recommended)
signal-integrity model HZU9B1L
pins: 1 K, 2 A

## HZU9B2L
designator D?
Silicon Planar Zener Diode for Low Noise Application; Published: 12-Feb-2010; DatasheetVersion: Rev.4.00, Oct-2007; PackageVersion: Sep-2005; PackageReference: PTSP0002ZA-A; Publisher: Altium Limited; PackageDescription: 2-Pin SC-76 Package, 1.7 x 1.3 mm Body; Code_JEITA: SC-76A; ComponentLink1Description: Manufacturer Link; ComponentLink1URL: http://sg.renesas.com/fmwk.jsp?cnt=diode_landing.jsp&fp=/products/discrete/diodes/; ComponentLink2Description: Datasheet; ComponentLink2URL: http://documentation.renesas.com/eng/products/diode/rej03g0043_hzu_l.pdf; ComponentLink3Description: Packaging Specification; ComponentLink3URL: http://sg.renesas.com/media/products/common_info/package/pdf/diode/code/ptsp0002za_a.pdf
footprint PTSP0002ZA-A (SC-76; 2 Leads; Body 1.7x1.3mm, Renesas Recommended)
signal-integrity model HZU9B2L
pins: 1 K, 2 A

## HZU9B3L
designator D?
Silicon Planar Zener Diode for Low Noise Application; Published: 12-Feb-2010; DatasheetVersion: Rev.4.00, Oct-2007; PackageVersion: Sep-2005; PackageReference: PTSP0002ZA-A; Publisher: Altium Limited; PackageDescription: 2-Pin SC-76 Package, 1.7 x 1.3 mm Body; Code_JEITA: SC-76A; ComponentLink1Description: Manufacturer Link; ComponentLink1URL: http://sg.renesas.com/fmwk.jsp?cnt=diode_landing.jsp&fp=/products/discrete/diodes/; ComponentLink2Description: Datasheet; ComponentLink2URL: http://documentation.renesas.com/eng/products/diode/rej03g0043_hzu_l.pdf; ComponentLink3Description: Packaging Specification; ComponentLink3URL: http://sg.renesas.com/media/products/common_info/package/pdf/diode/code/ptsp0002za_a.pdf
footprint PTSP0002ZA-A (SC-76; 2 Leads; Body 1.7x1.3mm, Renesas Recommended)
signal-integrity model HZU9B3L
pins: 1 K, 2 A

## HZU9C1L
designator D?
Silicon Planar Zener Diode for Low Noise Application; Published: 12-Feb-2010; DatasheetVersion: Rev.4.00, Oct-2007; PackageVersion: Sep-2005; PackageReference: PTSP0002ZA-A; Publisher: Altium Limited; PackageDescription: 2-Pin SC-76 Package, 1.7 x 1.3 mm Body; Code_JEITA: SC-76A; ComponentLink1Description: Manufacturer Link; ComponentLink1URL: http://sg.renesas.com/fmwk.jsp?cnt=diode_landing.jsp&fp=/products/discrete/diodes/; ComponentLink2Description: Datasheet; ComponentLink2URL: http://documentation.renesas.com/eng/products/diode/rej03g0043_hzu_l.pdf; ComponentLink3Description: Packaging Specification; ComponentLink3URL: http://sg.renesas.com/media/products/common_info/package/pdf/diode/code/ptsp0002za_a.pdf
footprint PTSP0002ZA-A (SC-76; 2 Leads; Body 1.7x1.3mm, Renesas Recommended)
signal-integrity model HZU9C1L
pins: 1 K, 2 A

## HZU9C2L
designator D?
Silicon Planar Zener Diode for Low Noise Application; Published: 12-Feb-2010; DatasheetVersion: Rev.4.00, Oct-2007; PackageVersion: Sep-2005; PackageReference: PTSP0002ZA-A; Publisher: Altium Limited; PackageDescription: 2-Pin SC-76 Package, 1.7 x 1.3 mm Body; Code_JEITA: SC-76A; ComponentLink1Description: Manufacturer Link; ComponentLink1URL: http://sg.renesas.com/fmwk.jsp?cnt=diode_landing.jsp&fp=/products/discrete/diodes/; ComponentLink2Description: Datasheet; ComponentLink2URL: http://documentation.renesas.com/eng/products/diode/rej03g0043_hzu_l.pdf; ComponentLink3Description: Packaging Specification; ComponentLink3URL: http://sg.renesas.com/media/products/common_info/package/pdf/diode/code/ptsp0002za_a.pdf
footprint PTSP0002ZA-A (SC-76; 2 Leads; Body 1.7x1.3mm, Renesas Recommended)
signal-integrity model HZU9C2L
pins: 1 K, 2 A

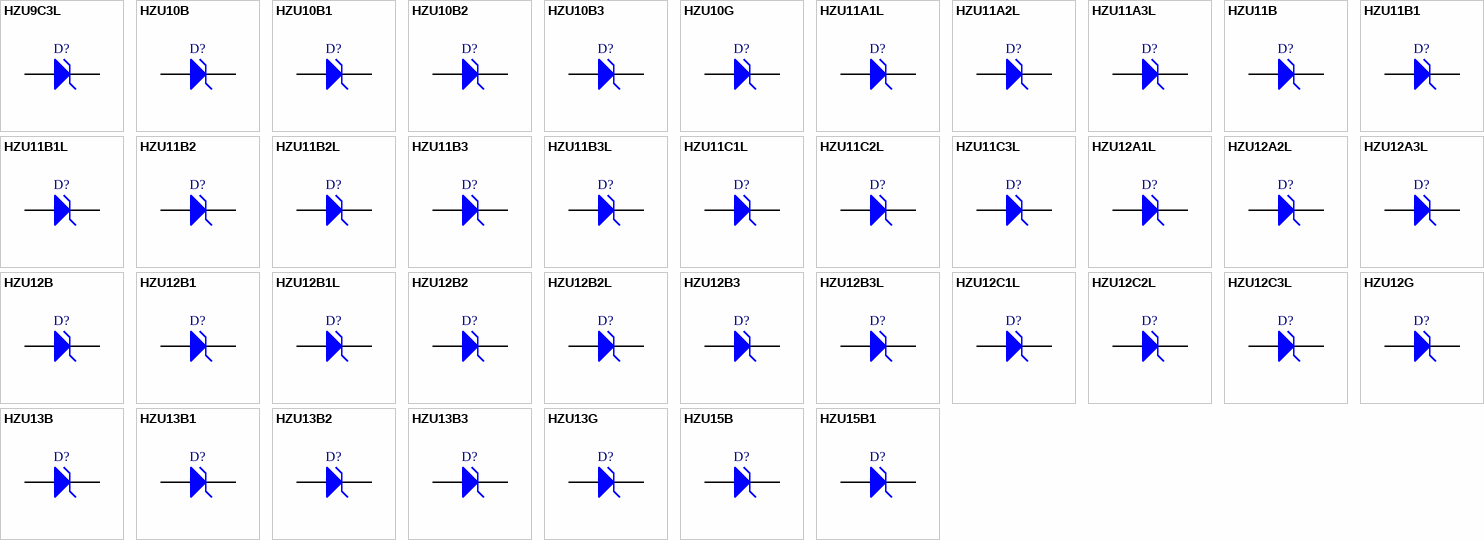
[diagram p31: symbols HZU9C3L to HZU15B1]

## HZU9C3L
designator D?
Silicon Planar Zener Diode for Low Noise Application; Published: 12-Feb-2010; DatasheetVersion: Rev.4.00, Oct-2007; PackageVersion: Sep-2005; PackageReference: PTSP0002ZA-A; Publisher: Altium Limited; PackageDescription: 2-Pin SC-76 Package, 1.7 x 1.3 mm Body; Code_JEITA: SC-76A; ComponentLink1Description: Manufacturer Link; ComponentLink1URL: http://sg.renesas.com/fmwk.jsp?cnt=diode_landing.jsp&fp=/products/discrete/diodes/; ComponentLink2Description: Datasheet; ComponentLink2URL: http://documentation.renesas.com/eng/products/diode/rej03g0043_hzu_l.pdf; ComponentLink3Description: Packaging Specification; ComponentLink3URL: http://sg.renesas.com/media/products/common_info/package/pdf/diode/code/ptsp0002za_a.pdf
footprint PTSP0002ZA-A (SC-76; 2 Leads; Body 1.7x1.3mm, Renesas Recommended)
signal-integrity model HZU9C3L
pins: 1 K, 2 A

## HZU10B
designator D?
Silicon Epitaxial Planar Zener Diodes for Stabilizer; Published: 12-Feb-2010; DatasheetVersion: Rev.9.00, Jul-2006; PackageVersion: Sep-2005; PackageReference: PTSP0002ZA-A; Publisher: Altium Limited; PackageDescription: 2-Pin SC-76 Package, 1.7 x 1.3 mm Body; Code_JEITA: SC-76A; ComponentLink1Description: Manufacturer Link; ComponentLink1URL: http://sg.renesas.com/fmwk.jsp?cnt=diode_landing.jsp&fp=/products/discrete/diodes/; ComponentLink2Description: Datasheet; ComponentLink2URL: http://documentation.renesas.com/eng/products/diode/rej03g0625_hzu.pdf; ComponentLink3Description: Packaging Specification; ComponentLink3URL: http://sg.renesas.com/media/products/common_info/package/pdf/diode/code/ptsp0002za_a.pdf
footprint PTSP0002ZA-A (SC-76; 2 Leads; Body 1.7x1.3mm, Renesas Recommended)
signal-integrity model HZU10B
pins: 1 K, 2 A

## HZU10B1
designator D?
Silicon Epitaxial Planar Zener Diodes for Stabilizer; Published: 12-Feb-2010; DatasheetVersion: Rev.9.00, Jul-2006; PackageVersion: Sep-2005; PackageReference: PTSP0002ZA-A; Publisher: Altium Limited; PackageDescription: 2-Pin SC-76 Package, 1.7 x 1.3 mm Body; Code_JEITA: SC-76A; ComponentLink1Description: Manufacturer Link; ComponentLink1URL: http://sg.renesas.com/fmwk.jsp?cnt=diode_landing.jsp&fp=/products/discrete/diodes/; ComponentLink2Description: Datasheet; ComponentLink2URL: http://documentation.renesas.com/eng/products/diode/rej03g0625_hzu.pdf; ComponentLink3Description: Packaging Specification; ComponentLink3URL: http://sg.renesas.com/media/products/common_info/package/pdf/diode/code/ptsp0002za_a.pdf
footprint PTSP0002ZA-A (SC-76; 2 Leads; Body 1.7x1.3mm, Renesas Recommended)
signal-integrity model HZU10B1
pins: 1 K, 2 A

## HZU10B2
designator D?
Silicon Epitaxial Planar Zener Diodes for Stabilizer; Published: 12-Feb-2010; DatasheetVersion: Rev.9.00, Jul-2006; PackageVersion: Sep-2005; PackageReference: PTSP0002ZA-A; Publisher: Altium Limited; PackageDescription: 2-Pin SC-76 Package, 1.7 x 1.3 mm Body; Code_JEITA: SC-76A; ComponentLink1Description: Manufacturer Link; ComponentLink1URL: http://sg.renesas.com/fmwk.jsp?cnt=diode_landing.jsp&fp=/products/discrete/diodes/; ComponentLink2Description: Datasheet; ComponentLink2URL: http://documentation.renesas.com/eng/products/diode/rej03g0625_hzu.pdf; ComponentLink3Description: Packaging Specification; ComponentLink3URL: http://sg.renesas.com/media/products/common_info/package/pdf/diode/code/ptsp0002za_a.pdf
footprint PTSP0002ZA-A (SC-76; 2 Leads; Body 1.7x1.3mm, Renesas Recommended)
signal-integrity model HZU10B2
pins: 1 K, 2 A

## HZU10B3
designator D?
Silicon Epitaxial Planar Zener Diodes for Stabilizer; Published: 12-Feb-2010; DatasheetVersion: Rev.9.00, Jul-2006; PackageVersion: Sep-2005; PackageReference: PTSP0002ZA-A; Publisher: Altium Limited; PackageDescription: 2-Pin SC-76 Package, 1.7 x 1.3 mm Body; Code_JEITA: SC-76A; ComponentLink1Description: Manufacturer Link; ComponentLink1URL: http://sg.renesas.com/fmwk.jsp?cnt=diode_landing.jsp&fp=/products/discrete/diodes/; ComponentLink2Description: Datasheet; ComponentLink2URL: http://documentation.renesas.com/eng/products/diode/rej03g0625_hzu.pdf; ComponentLink3Description: Packaging Specification; ComponentLink3URL: http://sg.renesas.com/media/products/common_info/package/pdf/diode/code/ptsp0002za_a.pdf
footprint PTSP0002ZA-A (SC-76; 2 Leads; Body 1.7x1.3mm, Renesas Recommended)
signal-integrity model HZU10B3
pins: 1 K, 2 A

## HZU10G
designator D?
Silicon Epitaxial Planar Zener Diode for Surge Absorption; Published: 12-Feb-2010; DatasheetVersion: Rev.3.00, Jun-2006; PackageVersion: Sep-2005; PackageReference: PTSP0002ZA-A; Publisher: Altium Limited; PackageDescription: 2-Pin SC-76 Package, 1.7 x 1.3 mm Body; Code_JEITA: SC-76A; ComponentLink1Description: Manufacturer Link; ComponentLink1URL: http://sg.renesas.com/fmwk.jsp?cnt=diode_landing.jsp&fp=/products/discrete/diodes/; ComponentLink2Description: Datasheet; ComponentLink2URL: http://documentation.renesas.com/eng/products/diode/rej03g1215_hzu_g.pdf; ComponentLink3Description: Packaging Specification; ComponentLink3URL: http://sg.renesas.com/media/products/common_info/package/pdf/diode/code/ptsp0002za_a.pdf
footprint PTSP0002ZA-A (SC-76; 2 Leads; Body 1.7x1.3mm, Renesas Recommended)
signal-integrity model HZU10G
pins: 1 K, 2 A

## HZU11A1L
designator D?
Silicon Planar Zener Diode for Low Noise Application; Published: 12-Feb-2010; DatasheetVersion: Rev.4.00, Oct-2007; PackageVersion: Sep-2005; PackageReference: PTSP0002ZA-A; Publisher: Altium Limited; PackageDescription: 2-Pin SC-76 Package, 1.7 x 1.3 mm Body; Code_JEITA: SC-76A; ComponentLink1Description: Manufacturer Link; ComponentLink1URL: http://sg.renesas.com/fmwk.jsp?cnt=diode_landing.jsp&fp=/products/discrete/diodes/; ComponentLink2Description: Datasheet; ComponentLink2URL: http://documentation.renesas.com/eng/products/diode/rej03g0043_hzu_l.pdf; ComponentLink3Description: Packaging Specification; ComponentLink3URL: http://sg.renesas.com/media/products/common_info/package/pdf/diode/code/ptsp0002za_a.pdf
footprint PTSP0002ZA-A (SC-76; 2 Leads; Body 1.7x1.3mm, Renesas Recommended)
signal-integrity model HZU11A1L
pins: 1 K, 2 A

## HZU11A2L
designator D?
Silicon Planar Zener Diode for Low Noise Application; Published: 12-Feb-2010; DatasheetVersion: Rev.4.00, Oct-2007; PackageVersion: Sep-2005; PackageReference: PTSP0002ZA-A; Publisher: Altium Limited; PackageDescription: 2-Pin SC-76 Package, 1.7 x 1.3 mm Body; Code_JEITA: SC-76A; ComponentLink1Description: Manufacturer Link; ComponentLink1URL: http://sg.renesas.com/fmwk.jsp?cnt=diode_landing.jsp&fp=/products/discrete/diodes/; ComponentLink2Description: Datasheet; ComponentLink2URL: http://documentation.renesas.com/eng/products/diode/rej03g0043_hzu_l.pdf; ComponentLink3Description: Packaging Specification; ComponentLink3URL: http://sg.renesas.com/media/products/common_info/package/pdf/diode/code/ptsp0002za_a.pdf
footprint PTSP0002ZA-A (SC-76; 2 Leads; Body 1.7x1.3mm, Renesas Recommended)
signal-integrity model HZU11A2L
pins: 1 K, 2 A

## HZU11A3L
designator D?
Silicon Planar Zener Diode for Low Noise Application; Published: 12-Feb-2010; DatasheetVersion: Rev.4.00, Oct-2007; PackageVersion: Sep-2005; PackageReference: PTSP0002ZA-A; Publisher: Altium Limited; PackageDescription: 2-Pin SC-76 Package, 1.7 x 1.3 mm Body; Code_JEITA: SC-76A; ComponentLink1Description: Manufacturer Link; ComponentLink1URL: http://sg.renesas.com/fmwk.jsp?cnt=diode_landing.jsp&fp=/products/discrete/diodes/; ComponentLink2Description: Datasheet; ComponentLink2URL: http://documentation.renesas.com/eng/products/diode/rej03g0043_hzu_l.pdf; ComponentLink3Description: Packaging Specification; ComponentLink3URL: http://sg.renesas.com/media/products/common_info/package/pdf/diode/code/ptsp0002za_a.pdf
footprint PTSP0002ZA-A (SC-76; 2 Leads; Body 1.7x1.3mm, Renesas Recommended)
signal-integrity model HZU11A3L
pins: 1 K, 2 A

## HZU11B
designator D?
Silicon Epitaxial Planar Zener Diodes for Stabilizer; Published: 12-Feb-2010; DatasheetVersion: Rev.9.00, Jul-2006; PackageVersion: Sep-2005; PackageReference: PTSP0002ZA-A; Publisher: Altium Limited; PackageDescription: 2-Pin SC-76 Package, 1.7 x 1.3 mm Body; Code_JEITA: SC-76A; ComponentLink1Description: Manufacturer Link; ComponentLink1URL: http://sg.renesas.com/fmwk.jsp?cnt=diode_landing.jsp&fp=/products/discrete/diodes/; ComponentLink2Description: Datasheet; ComponentLink2URL: http://documentation.renesas.com/eng/products/diode/rej03g0625_hzu.pdf; ComponentLink3Description: Packaging Specification; ComponentLink3URL: http://sg.renesas.com/media/products/common_info/package/pdf/diode/code/ptsp0002za_a.pdf
footprint PTSP0002ZA-A (SC-76; 2 Leads; Body 1.7x1.3mm, Renesas Recommended)
signal-integrity model HZU11B
pins: 1 K, 2 A

## HZU11B1
designator D?
Silicon Epitaxial Planar Zener Diodes for Stabilizer; Published: 12-Feb-2010; DatasheetVersion: Rev.9.00, Jul-2006; PackageVersion: Sep-2005; PackageReference: PTSP0002ZA-A; Publisher: Altium Limited; PackageDescription: 2-Pin SC-76 Package, 1.7 x 1.3 mm Body; Code_JEITA: SC-76A; ComponentLink1Description: Manufacturer Link; ComponentLink1URL: http://sg.renesas.com/fmwk.jsp?cnt=diode_landing.jsp&fp=/products/discrete/diodes/; ComponentLink2Description: Datasheet; ComponentLink2URL: http://documentation.renesas.com/eng/products/diode/rej03g0625_hzu.pdf; ComponentLink3Description: Packaging Specification; ComponentLink3URL: http://sg.renesas.com/media/products/common_info/package/pdf/diode/code/ptsp0002za_a.pdf
footprint PTSP0002ZA-A (SC-76; 2 Leads; Body 1.7x1.3mm, Renesas Recommended)
signal-integrity model HZU11B1
pins: 1 K, 2 A

## HZU11B1L
designator D?
Silicon Planar Zener Diode for Low Noise Application; Published: 12-Feb-2010; DatasheetVersion: Rev.4.00, Oct-2007; PackageVersion: Sep-2005; PackageReference: PTSP0002ZA-A; Publisher: Altium Limited; PackageDescription: 2-Pin SC-76 Package, 1.7 x 1.3 mm Body; Code_JEITA: SC-76A; ComponentLink1Description: Manufacturer Link; ComponentLink1URL: http://sg.renesas.com/fmwk.jsp?cnt=diode_landing.jsp&fp=/products/discrete/diodes/; ComponentLink2Description: Datasheet; ComponentLink2URL: http://documentation.renesas.com/eng/products/diode/rej03g0043_hzu_l.pdf; ComponentLink3Description: Packaging Specification; ComponentLink3URL: http://sg.renesas.com/media/products/common_info/package/pdf/diode/code/ptsp0002za_a.pdf
footprint PTSP0002ZA-A (SC-76; 2 Leads; Body 1.7x1.3mm, Renesas Recommended)
signal-integrity model HZU11B1L
pins: 1 K, 2 A

## HZU11B2
designator D?
Silicon Epitaxial Planar Zener Diodes for Stabilizer; Published: 12-Feb-2010; DatasheetVersion: Rev.9.00, Jul-2006; PackageVersion: Sep-2005; PackageReference: PTSP0002ZA-A; Publisher: Altium Limited; PackageDescription: 2-Pin SC-76 Package, 1.7 x 1.3 mm Body; Code_JEITA: SC-76A; ComponentLink1Description: Manufacturer Link; ComponentLink1URL: http://sg.renesas.com/fmwk.jsp?cnt=diode_landing.jsp&fp=/products/discrete/diodes/; ComponentLink2Description: Datasheet; ComponentLink2URL: http://documentation.renesas.com/eng/products/diode/rej03g0625_hzu.pdf; ComponentLink3Description: Packaging Specification; ComponentLink3URL: http://sg.renesas.com/media/products/common_info/package/pdf/diode/code/ptsp0002za_a.pdf
footprint PTSP0002ZA-A (SC-76; 2 Leads; Body 1.7x1.3mm, Renesas Recommended)
signal-integrity model HZU11B2
pins: 1 K, 2 A

## HZU11B2L
designator D?
Silicon Planar Zener Diode for Low Noise Application; Published: 12-Feb-2010; DatasheetVersion: Rev.4.00, Oct-2007; PackageVersion: Sep-2005; PackageReference: PTSP0002ZA-A; Publisher: Altium Limited; PackageDescription: 2-Pin SC-76 Package, 1.7 x 1.3 mm Body; Code_JEITA: SC-76A; ComponentLink1Description: Manufacturer Link; ComponentLink1URL: http://sg.renesas.com/fmwk.jsp?cnt=diode_landing.jsp&fp=/products/discrete/diodes/; ComponentLink2Description: Datasheet; ComponentLink2URL: http://documentation.renesas.com/eng/products/diode/rej03g0043_hzu_l.pdf; ComponentLink3Description: Packaging Specification; ComponentLink3URL: http://sg.renesas.com/media/products/common_info/package/pdf/diode/code/ptsp0002za_a.pdf
footprint PTSP0002ZA-A (SC-76; 2 Leads; Body 1.7x1.3mm, Renesas Recommended)
signal-integrity model HZU11B2L
pins: 1 K, 2 A